# EAGLE library part RASPBERRY_PI_B+ (library FaBo-Boards)
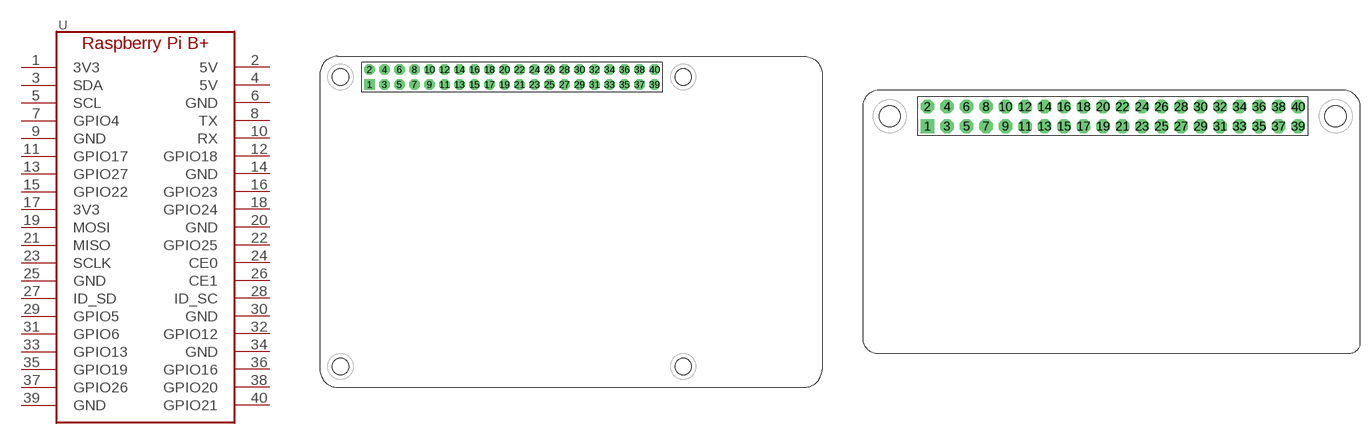
[diagram p2: symbol with the pads of RASPBERRY_PI_B+; footprints RASPBERRY_PI_B+, RASPBERRY_PI_B+_MINI]

Designator prefix U

## RASPBERRY_PI_B+NORMAL  [RASPBERRY_PI_B+]
1  3V3
2  5V
3  SDA
4  5V
5  SCL
6  GND
7  GPIO4
8  TX
9  GND
10  RX
11  GPIO17
12  GPIO18
13  GPIO27
14  GND
15  GPIO22
16  GPIO23
17  3V3
18  GPIO24
19  MOSI
20  GND
21  MISO
22  GPIO25
23  SCLK
24  CE0
25  GND
26  CE1
27  ID_SD
28  ID_SC
29  GPIO5
30  GND
31  GPIO6
32  GPIO12
33  GPIO13
34  GND
35  GPIO19
36  GPIO16
37  GPIO26
38  GPIO20
39  GND
40  GPIO21

## RASPBERRY_PI_B+MINI  [RASPBERRY_PI_B+_MINI]
Pads as for RASPBERRY_PI_B+

## Footprint RASPBERRY_PI_B+ (pad centres in mm)
drill 1 pad 1.778 square: 1 0,-2.54
drill 1 pad 1.778 octagon: 2 0,0; 3 2.54,-2.54; 4 2.54,0; 5 5.08,-2.54; 6 5.08,0; 7 7.62,-2.54; 8 7.62,0; 9 10.16,-2.54; 10 10.16,0; 11 12.7,-2.54; 12 12.7,0; 13 15.24,-2.54; 14 15.24,0; 15 17.78,-2.54; 16 17.78,0; 17 20.32,-2.54; 18 20.32,0; 19 22.86,-2.54; 20 22.86,0; 21 25.4,-2.54; 22 25.4,0; 23 27.94,-2.54; 24 27.94,0; 25 30.48,-2.54; 26 30.48,0; 27 33.02,-2.54; 28 33.02,0; 29 35.56,-2.54; 30 35.56,0; 31 38.1,-2.54; 32 38.1,0; 33 40.64,-2.54; 34 40.64,0; 35 43.18,-2.54; 36 43.18,0; 37 45.72,-2.54; 38 45.72,0; 39 48.26,-2.54; 40 48.26,0

## Footprint RASPBERRY_PI_B+_MINI (pad centres in mm)
drill 1 pad 1.778 square: 1 8.89,-5.08
drill 1 pad 1.778 octagon: 2 8.89,-2.54; 3 11.43,-5.08; 4 11.43,-2.54; 5 13.97,-5.08; 6 13.97,-2.54; 7 16.51,-5.08; 8 16.51,-2.54; 9 19.05,-5.08; 10 19.05,-2.54; 11 21.59,-5.08; 12 21.59,-2.54; 13 24.13,-5.08; 14 24.13,-2.54; 15 26.67,-5.08; 16 26.67,-2.54; 17 29.21,-5.08; 18 29.21,-2.54; 19 31.75,-5.08; 20 31.75,-2.54; 21 34.29,-5.08; 22 34.29,-2.54; 23 36.83,-5.08; 24 36.83,-2.54; 25 39.37,-5.08; 26 39.37,-2.54; 27 41.91,-5.08; 28 41.91,-2.54; 29 44.45,-5.08; 30 44.45,-2.54; 31 46.99,-5.08; 32 46.99,-2.54; 33 49.53,-5.08; 34 49.53,-2.54; 35 52.07,-5.08; 36 52.07,-2.54; 37 54.61,-5.08; 38 54.61,-2.54; 39 57.15,-5.08; 40 57.15,-2.54